# EAGLE library part MTCH108-I_SS (library Deegou_IC)
MTCH108-I/SS, Capacitive Touch Screen Controller Simple I/O, 20-Pin SSOP Source: Datasheet <https://componentsearchengine.com/Datasheets/2/MTCH108-I_SS.pdf>
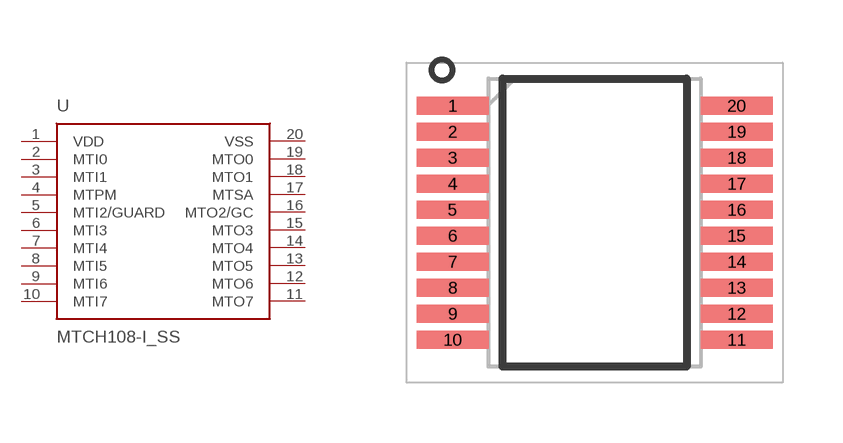
[diagram p137: symbol with the pads of SOP65P780X200-20N; footprint SOP65P780X200-20N]

Designator prefix U

## MTCH108-I_SS (DESCRIPTION: MTCH108-I/SS, Capacitive Touch Screen Controller Simple I/O, 20-Pin SSOP; HEIGHT: 2mm; MANUFACTURER_NAME: Microchip; MANUFACTURER_PART_NUMBER: MTCH108-I/SS; MOUSER_PART_NUMBER: 579-MTCH108-I/SS; MOUSER_PRICE-STOCK: https://www.mouser.com/Search/Refine.aspx?Keyword=579-MTCH108-I%2FSS; RS_PART_NUMBER: 1460306; RS_PRICE-STOCK: http://uk.rs-online.com/web/p/products/1460306)  [SOP65P780X200-20N]
1  VDD  pwr
2  MTI0  in
3  MTI1  in
4  MTPM
5  MTI2/GUARD
6  MTI3  in
7  MTI4  in
8  MTI5  in
9  MTI6  in
10  MTI7  in
11  MTO7  out
12  MTO6  out
13  MTO5  out
14  MTO4  out
15  MTO3  out
16  MTO2/GC
17  MTSA
18  MTO1  out
19  MTO0  out
20  VSS  pwr

## Footprint SOP65P780X200-20N (pad centres in mm)
(SS)20-lead(SSOP)
smd 1.8 x 0.45: 1 -3.55,2.925; 2 -3.55,2.275; 3 -3.55,1.625; 4 -3.55,0.975; 5 -3.55,0.325; 6 -3.55,-0.325; 7 -3.55,-0.975; 8 -3.55,-1.625; 9 -3.55,-2.275; 10 -3.55,-2.925; 11 3.55,-2.925; 12 3.55,-2.275; 13 3.55,-1.625; 14 3.55,-0.975; 15 3.55,-0.325; 16 3.55,0.325; 17 3.55,0.975; 18 3.55,1.625; 19 3.55,2.275; 20 3.55,2.925